# Altium schematic symbol library SS24.SchLib: 1 symbol
Pins are listed as number, name and electrical type; pins without a type are passive.

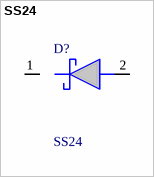
[diagram p0: symbol SS24]

## SS24
designator D?
Obsolete - 60 V, 2.0 A Schottky Rectifier; Manufacturer_Name: onsemi; Geometry.Height: 2.47mm; Manufacturer_Part_Number: SS24; Mouser Part Number: 512-SS24; Mouser Price/Stock: https://www.mouser.co.uk/ProductDetail/onsemi-Fairchild/SS24?qs=2ONuHmP%2FXzaG3AS4UEdHKw%3D%3D; Arrow Part Number: SS24; Arrow Price/Stock: https://www.arrow.com/en/products/ss24/on-semiconductor; Datasheet Link: https://www.onsemi.com/download/data-sheet/pdf/SS24-D.PDF
footprint DIOM5436X247N
pins: 1 K, 2 A